# EAGLE library part ESQT-114-02-X-D (library DUMMY)
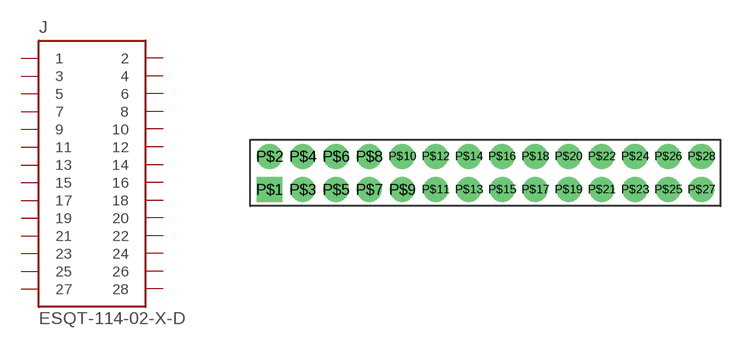
[diagram p1: symbol with the pads of 2MMHEAD2X14-TH; footprint 2MMHEAD2X14-TH]

Designator prefix J

## ESQT-114-02-X-D  [2MMHEAD2X14-TH]
P$1  1  pas
P$2  2  pas
P$3  3  pas
P$4  4  pas
P$5  5  pas
P$6  6  pas
P$7  7  pas
P$8  8  pas
P$9  9  pas
P$10  10  pas
P$11  11  pas
P$12  12  pas
P$13  13  pas
P$14  14  pas
P$15  15  pas
P$16  16  pas
P$17  17
P$18  18
P$19  19
P$20  20
P$21  21
P$22  22
P$23  23
P$24  24
P$25  25
P$26  26
P$27  27
P$28  28

## Footprint 2MMHEAD2X14-TH (pad centres in mm)
drill 1 square: P$1 -13,-1
drill 1 round: P$2 -13,1; P$3 -11,-1; P$4 -11,1; P$5 -9,-1; P$6 -9,1; P$7 -7,-1; P$8 -7,1; P$9 -5,-1; P$10 -5,1; P$11 -3,-1; P$12 -3,1; P$13 -1,-1; P$14 -1,1; P$15 1,-1; P$16 1,1; P$17 3,-1; P$18 3,1; P$19 5,-1; P$20 5,1; P$21 7,-1; P$22 7,1; P$23 9,-1; P$24 9,1; P$25 11,-1; P$26 11,1; P$27 13,-1; P$28 13,1